# Altium schematic symbol library lib_ic_CON.SchLib: 19 symbols
Pins are listed as number, name and electrical type; pins without a type are passive.

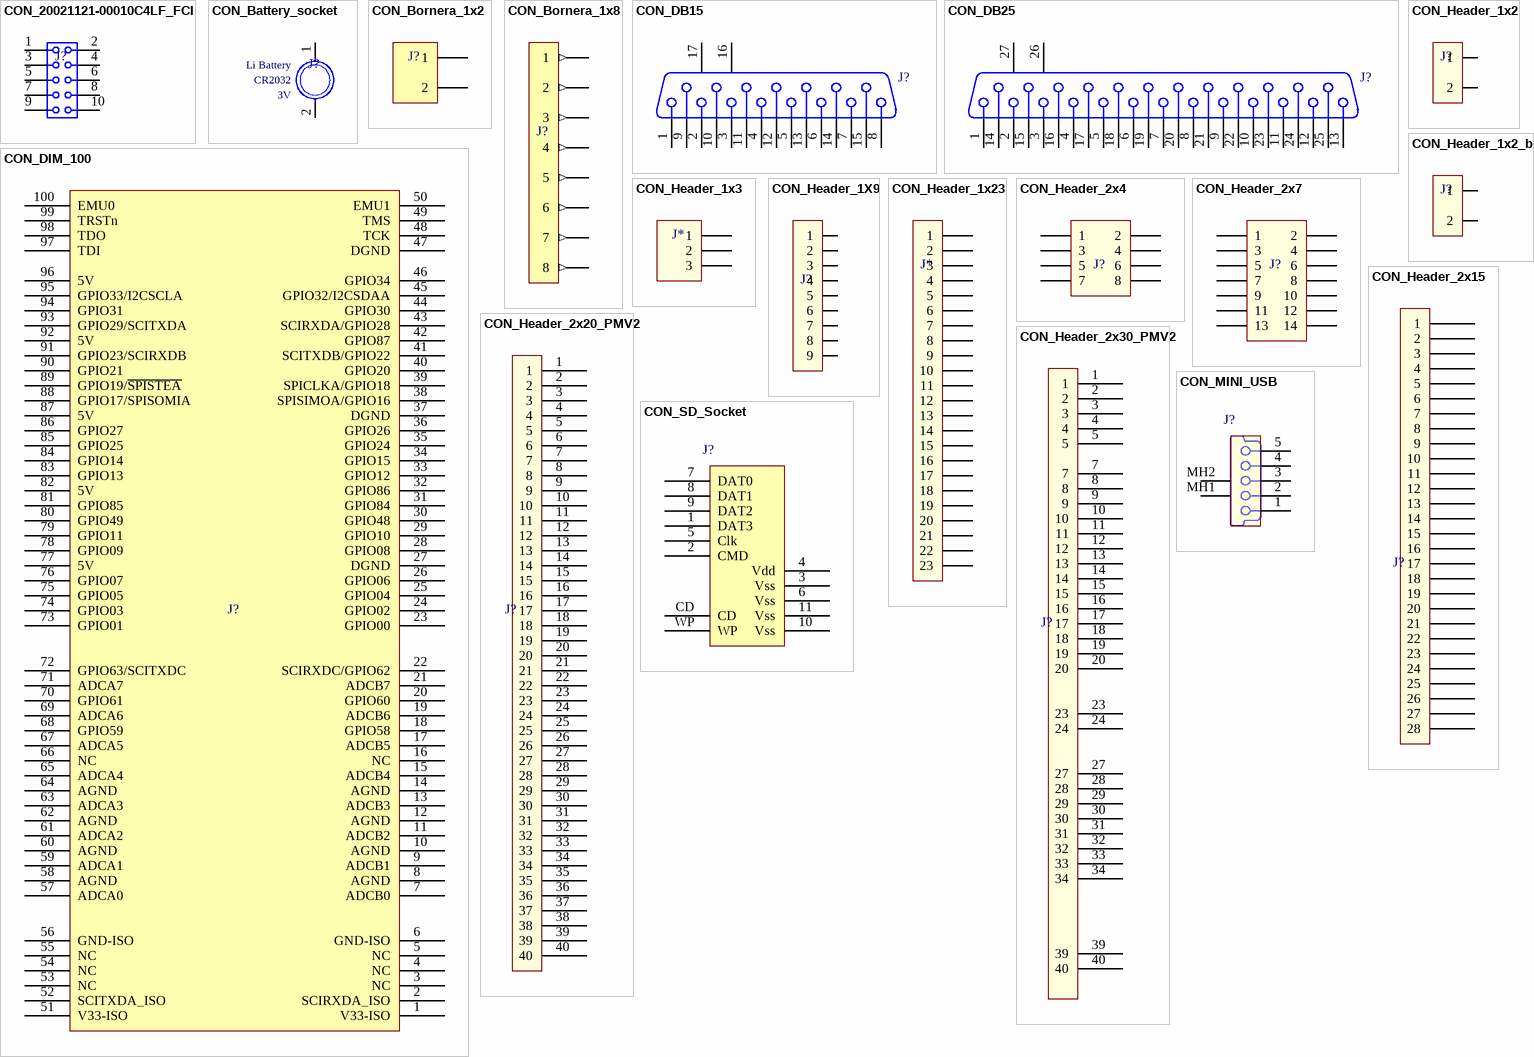
[diagram p0: symbols CON_20021121-00010C4LF_FCI to CON_SD_Socket]

## CON_20021121-00010C4LF_FCI
designator J?  (value not drawn)
CONN HEADER 10POS DL UNSHRD SMD; Manufacturer: FCI; Value: 20021121-00010C4LF; BOM Populate: *; Tolerance: *; Supplier Part No: *; Supplier: *; Voltage Rating: *; Current Rating: *; Digikey Part Number: 609-3695-1-ND; Manufacturer Part Number: 20021121-00010C4LF; Mouser Part Number: 649-202112100010C4LF
footprint FCI_20021121-00010C4LF (CONNECTOR, MICRO TERMINAL STRIP, 10POS, 2ROW, 1.27MM)
pins: 1, 2, 3, 4, 5, 6, 7, 8, 9, 10

## CON_Battery_socket
designator J?  (value not drawn)
HOLDER COINCELL 2032 RETAINRCLIP; Digikey Part Number: BS-7-ND; Manufacturer Part Number: *; Mouser Part Number: 122-2420-GR
footprint CON_BAT_2032
pins: 1, 2
text: Li Battery; CR2032; 3V

## CON_Bornera_1x2
designator J?  (value not drawn)
footprint PHOENIX_1729128 (Terminal Block 5.08mm pitch, vertical, 2 positions pcb mounting, Phoenix Contact)
pins: 1, 2

## CON_Bornera_1x8
designator J?  (value not drawn)
footprint BorneraX8
pins: 1 (out), 2 (out), 3 (out), 4 (out), 5 (out), 6 (out), 7 (out), 8 (out)

## CON_DB15
designator J?  (value not drawn)
Receptacle Assembly, 15 Position, Right Angle, 8.08mm Series, Amplimite, with Screwlocks; Positions: 15; MatingConnector: Female Screw Locks; PCB_Layout: Complies with manufacturer's recommendation.; DrillSize: Corresponds to nominal value.; Published: 15-Jun-2001; LatestRevisionDate: 17-Jul-2002; LatestRevisionNote: Re-released for DXP Platform.; DatasheetDocument: Sep-1999; PackageDocument: Sep-1999; PackageReference: 788781-1; Publisher: Altium Limited; Orientation: Right Angle; Gender: Receptacle; ShellSize: 2; ComponentLink1Description: Manufacturer Link; ComponentLink1URL: http://www.tycoelectronics.com/; ComponentLink2Description: Packaging Specification; ComponentLink2URL: http://ecommas.tycoelectronics.com/commerce/DocumentDelivery/DDEController?Action=showdoc&DocId=Customer+Drawing%7F788781%7FO%7Fpdf%7FEnglish%7FENG_CD_788781_O.pdf
footprint 788757-1 (Connector; D Subminiature AMPLIMITE 2000; 15 Position; Right Angle)
pins: 1, 2, 3, 4, 5, 6, 7, 8, 9, 10, 11, 12, 13, 14, 15, 16 MH1, 17 MH2

## CON_DB25
designator J?  (value not drawn)
Receptacle Assembly, Size 3, 25 Position, Right Angle, .318 Series, Amplimite; Positions: 25; MatingConnector: 4-40 Threaded Insert; PCB_Layout: Complies with manufacturer's recommendation.; DrillSize: Corresponds to nominal value.; ComponentAvailability: Obsolete; Published: 15-Jun-2001; LatestRevisionDate: 17-Jul-2002; LatestRevisionNote: Re-released for DXP Platform.; DatasheetDocument: 19-Mar-1999; PackageDocument: 19-Mar-1999; PackageReference: 787202-3; Publisher: Altium Limited; Orientation: Right Angle; Gender: Receptacle; ShellSize: 3; ComponentLink1Description: Manufacturer Link; ComponentLink1URL: http://www.tycoelectronics.com/
footprint 788755-2 (Connector; D Subminiature AMPLIMITE 2000; 25 Position; Right Angle)
pins: 1, 2, 3, 4, 5, 6, 7, 8, 9, 10, 11, 12, 13, 14, 15, 16, 17, 18, 19, 20, 21, 22, 23, 24, 25, 26 MH1, 27 MH2

## CON_DIM_100
designator J?  (value not drawn)
Manufacturer Part Number: 5390213-1; Digikey Part Number: A121375-ND; Mouser Part Number: 571-5390213-1
footprint DIMM1.27-2V100 (Connector; DIMM II; 100 Position; Vertical)
pins: 1 V33-ISO, 2 SCIRXDA_ISO, 3 NC, 4 NC, 5 NC, 6 GND-ISO, 7 ADCB0, 8 AGND, 9 ADCB1, 10 AGND, 11 ADCB2, 12 AGND, 13 ADCB3, 14 AGND, 15 ADCB4, 16 NC, 17 ADCB5, 18 GPIO58, 19 ADCB6, 20 GPIO60, 21 ADCB7, 22 SCIRXDC/GPIO62, 23 GPIO00, 24 GPIO02, 25 GPIO04, 26 GPIO06, 27 DGND, 28 GPIO08, 29 GPIO10, 30 GPIO48, 31 GPIO84, 32 GPIO86, 33 GPIO12, 34 GPIO15, 35 GPIO24, 36 GPIO26, 37 DGND, 38 SPISIMOA/GPIO16, 39 SPICLKA/GPIO18, 40 GPIO20, 41 SCITXDB/GPIO22, 42 GPIO87, 43 SCIRXDA/GPIO28, 44 GPIO30, 45 GPIO32/I2CSDAA, 46 GPIO34, 47 DGND, 48 TCK, 49 TMS, 50 EMU1, 51 V33-ISO, 52 SCITXDA_ISO, 53 NC, 54 NC, 55 NC, 56 GND-ISO, 57 ADCA0, 58 AGND, 59 ADCA1, 60 AGND, 61 ADCA2, 62 AGND, 63 ADCA3, 64 AGND, 65 ADCA4, 66 NC, 67 ADCA5, 68 GPIO59, 69 ADCA6, 70 GPIO61, 71 ADCA7, 72 GPIO63/SCITXDC, 73 GPIO01, 74 GPIO03, 75 GPIO05, 76 GPIO07, 77 5V, 78 GPIO09, 79 GPIO11, 80 GPIO49, 81 GPIO85, 82 5V, 83 GPIO13, 84 GPIO14, 85 GPIO25, 86 GPIO27, 87 5V, 88 GPIO17/SPISOMIA, 89 GPIO19/~{SPISTEA}, 90 GPIO21, 91 GPIO23/SCIRXDB, 92 5V, 93 GPIO29/SCITXDA, 94 GPIO31, 95 GPIO33/I2CSCLA, 96 5V, 97 TDI, 98 TDO, 99 TRSTn, 100 EMU0

## CON_Header_1x2
designator J?  (value not drawn)
footprint RAD2 (Radial Cap, Thru-Hole; 2 Leads; 0.1 in Pin Spacing)
pins: 1, 2

## CON_Header_1x2_b
designator J?  (value not drawn)
footprint RAD2b (Radial Cap, Thru-Hole; 2 Leads; 0.1 in Pin Spacing)
pins: 1, 2

## CON_Header_1x3
designator J*  (value not drawn)
footprint PIN3
pins: 1, 2, 3

## CON_Header_1X9
designator J?  (value not drawn)
footprint HDRX9
pins: 1, 2, 3, 4, 5, 6, 7, 8, 9

## CON_Header_1x23
designator J*  (value not drawn)
footprint HEADER_DSP_1
pins: 1, 2, 3, 4, 5, 6, 7, 8, 9, 10, 11, 12, 13, 14, 15, 16, 17, 18, 19, 20, 21, 22, 23

## CON_Header_2x4
designator J?  (value not drawn)
footprint HDR2X4
footprint HDR2X4
pins: 1, 2, 3, 4, 5, 6, 7, 8

## CON_Header_2x7
designator J?  (value not drawn)
footprint HDR2X7
pins: 1, 2, 3, 4, 5, 6, 7, 8, 9, 10, 11, 12, 13, 14

## CON_Header_2x15
designator J?  (value not drawn)
footprint HeaderX30
pins: 1, 2, 3, 4, 5, 6, 7, 8, 9, 10, 11, 12, 13, 14, 15, 16, 17, 18, 19, 20, 21, 22, 23, 24, 25, 26, 27, 28

## CON_Header_2x20_PMV2
designator J?  (value not drawn)
footprint HeaderX70
pins: 1, 2, 3, 4, 5, 6, 7, 8, 9, 10, 11, 12, 13, 14, 15, 16, 17, 18, 19, 20, 21, 22, 23, 24, 25, 26, 27, 28, 29, 30, 31, 32, 33, 34, 35, 36, 37, 38, 39, 40

## CON_Header_2x30_PMV2
designator J?  (value not drawn)
footprint HeaderX70b
pins: 1, 2, 3, 4, 5, 7, 8, 9, 10, 11, 12, 13, 14, 15, 16, 17, 18, 19, 20, 23, 24, 27, 28, 29, 30, 31, 32, 33, 34, 39, 40

## CON_MINI_USB
designator J?  (value not drawn)
Manufacturer Part Number: UX60SC-MB-5S8; Digikey Part Number: H11589CT-ND; Mouser Part Number: 798-UX60SC-MB-5S8
footprint UBS MiniB
pins: 1, 2, 3, 4, 5, MH1, MH2

## CON_SD_Socket
designator J?  (value not drawn)
SD Socket; Manufacturer Part Number: 10067847-001RLF; Digikey Part Number: 609-3956-1-ND; Mouser Part Number: 649-10067847-001RLF
footprint SD CARD SOCKET
pins: 1 DAT3, 2 CMD, 3 Vss, 4 Vdd, 5 Clk, 6 Vss, 7 DAT0, 8 DAT1, 9 DAT2, 10 Vss, 11 Vss, CD, WP